# Altium integrated library SigFox.IntLib: 9 symbols
Pins are listed as number, name and electrical type; pins without a type are passive.

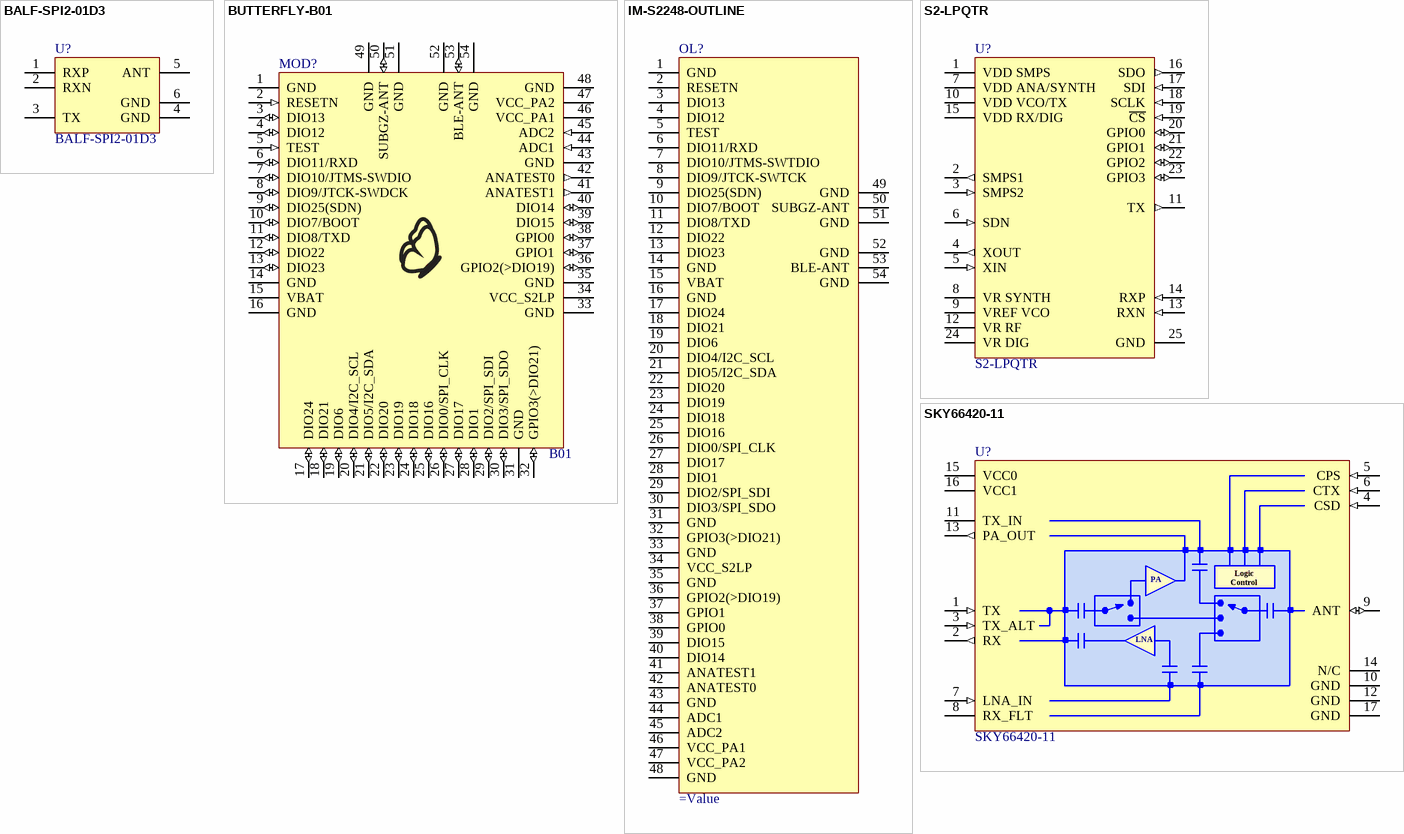
[diagram p0: symbols BALF-SPI2-01D3 to SKY66420-11]

## BALF-SPI2-01D3
designator U?
NOMINAL INPUT CONJUGATE MATCH BA; Manufacturer: STMicroelectronics; Supplier 1: Digi-Key; Manufacturer Part Number: BALF-SPI2-01D3; Stock 1: 2085; Pricing 1: 1 = 0,55000, 10 = 0,47500, 100 = 0,35470, 500 = 0,27872, 1000 = 0,21537 (USD); Value: BALF-SPI2-01D3; Supplier Part Number 1: 497-17626-1-ND
footprint 6UFBGA (Flip-Chip 6 bumps package)
pins: 1 RXP, 2 RXN, 3 TX, 4 GND, 5 ANT, 6 GND

## BUTTERFLY-B01
designator MOD?, comment B01
SigFox MonArch Module with Bluetooth; Manufacturer: COLCIRCUITOS; Value: B01; Supplier Part Number 1: B01; Supplier 1: TECREA; Manufacturer Part Number: B01
footprint BUTTERFLY-B01 (SigFox Monarch Module with Bluetooth)
pins: 1 GND, 2 RESETN (in), 3 DIO13 (io), 4 DIO12 (io), 5 TEST (in), 6 DIO11/RXD (io), 7 DIO10/JTMS-SWDIO (io), 8 DIO9/JTCK-SWDCK (io), 9 DIO25(SDN) (io), 10 DIO7/BOOT (io), 11 DIO8/TXD (io), 12 DIO22 (io), 13 DIO23 (io), 14 GND, 15 VBAT, 16 GND, 17 DIO24 (io), 18 DIO21 (io), 19 DIO6 (io), 20 DIO4/I2C_SCL (io), 21 DIO5/I2C_SDA (io), 22 DIO20 (io), 23 DIO19 (io), 24 DIO18 (io), 25 DIO16 (io), 26 DIO0/SPI_CLK (io), 27 DIO17 (io), 28 DIO1 (io), 29 DIO2/SPI_SDI (io), 30 DIO3/SPI_SDO (io), 31 GND, 32 GPIO3(>DIO21) (io), 33 GND, 34 VCC_S2LP, 35 GND, 36 GPIO2(>DIO19) (io), 37 GPIO1 (io), 38 GPIO0 (io), 39 DIO15 (io), 40 DIO14 (io), 41 ANATEST1 (out), 42 ANATEST0 (out), 43 GND, 44 ADC1 (in), 45 ADC2 (in), 46 VCC_PA1, 47 VCC_PA2, 48 GND, 49 GND, 50 SUBGZ-ANT (io), 51 GND, 52 GND, 53 BLE-ANT (io), 54 GND

## IM-S2248-OUTLINE
designator OL?
Butterfly Module - IM-S2248-OUTLINE
footprint IM-S2248-OUTLINE (Butterfly Module)
pins: 1 GND, 2 RESETN, 3 DIO13, 4 DIO12, 5 TEST, 6 DIO11/RXD, 7 DIO10/JTMS-SWTDIO, 8 DIO9/JTCK-SWTCK, 9 DIO25(SDN), 10 DIO7/BOOT, 11 DIO8/TXD, 12 DIO22, 13 DIO23, 14 GND, 15 VBAT, 16 GND, 17 DIO24, 18 DIO21, 19 DIO6, 20 DIO4/I2C_SCL, 21 DIO5/I2C_SDA, 22 DIO20, 23 DIO19, 24 DIO18, 25 DIO16, 26 DIO0/SPI_CLK, 27 DIO17, 28 DIO1, 29 DIO2/SPI_SDI, 30 DIO3/SPI_SDO, 31 GND, 32 GPIO3(>DIO21), 33 GND, 34 VCC_S2LP, 35 GND, 36 GPIO2(>DIO19), 37 GPIO1, 38 GPIO0, 39 DIO15, 40 DIO14, 41 ANATEST1, 42 ANATEST0, 43 GND, 44 ADC1, 45 ADC2, 46 VCC_PA1, 47 VCC_PA2, 48 GND, 49 GND, 50 SUBGZ-ANT, 51 GND, 52 GND, 53 BLE-ANT, 54 GND

## S2-LPQTR
designator U?
ULTRA-LOW POWER, HIGH PERFORMANC; Manufacturer: STMicroelectronics; Supplier 1: Digi-Key; Manufacturer Part Number: S2-LPQTR; Stock 1: 7425; Pricing 1: 1 = 3,00000, 10 = 2,69700, 100 = 2,20940, 500 = 1,88078, 1000 = 1,58620 (USD); Value: S2-LPQTR; Supplier Part Number 1: 497-17052-1-ND
footprint QFN24 4x4 (QFN24 4x4x1pitch 0.5 mm)
pins: 1 VDD SMPS, 2 SMPS1 (out), 3 SMPS2 (in), 4 XOUT (out), 5 XIN (in), 6 SDN (in), 7 VDD ANA/SYNTH, 8 VR SYNTH, 9 VREF VCO, 10 VDD VCO/TX, 11 TX (out), 12 VR RF, 13 RXN (in), 14 RXP (in), 15 VDD RX/DIG, 16 SDO (out), 17 SDI (in), 18 SCLK (in), 19 ~{CS} (in), 20 GPIO0 (io), 21 GPIO1 (io), 22 GPIO2 (io), 23 GPIO3 (io), 24 VR DIG, 25 GND

## SKY66420-11
designator U?
860 TO 930MHZ RF FEM; Manufacturer: Skyworks Solutions; Supplier 1: Digi-Key; Manufacturer Part Number: SKY66420-11; Stock 1: 7972; Pricing 1: 1 = 2,94000, 10 = 2,62500, 25 = 2,36240, 100 = 2,15250, 250 = 1,94252, 500 = 1,74300, 1000 = 1,47000 (USD); Value: SKY66420-11; Supplier Part Number 1: 863-2028-1-ND
footprint 16-MCM (3x3) (MCM (16-pin, 3.0 x 3.0 x 0.75 mm))
pins: 1 TX (in), 2 RX (out), 3 TX_ALT (in), 4 CSD (in), 5 CPS (in), 6 CTX (in), 7 LNA_IN (in), 8 RX_FLT, 9 ANT (io), 10 GND, 11 TX_IN, 12 GND, 13 PA_OUT (out), 14 N/C, 15 VCC0, 16 VCC1, 17 GND
text: PA; Logic / Control; LNA

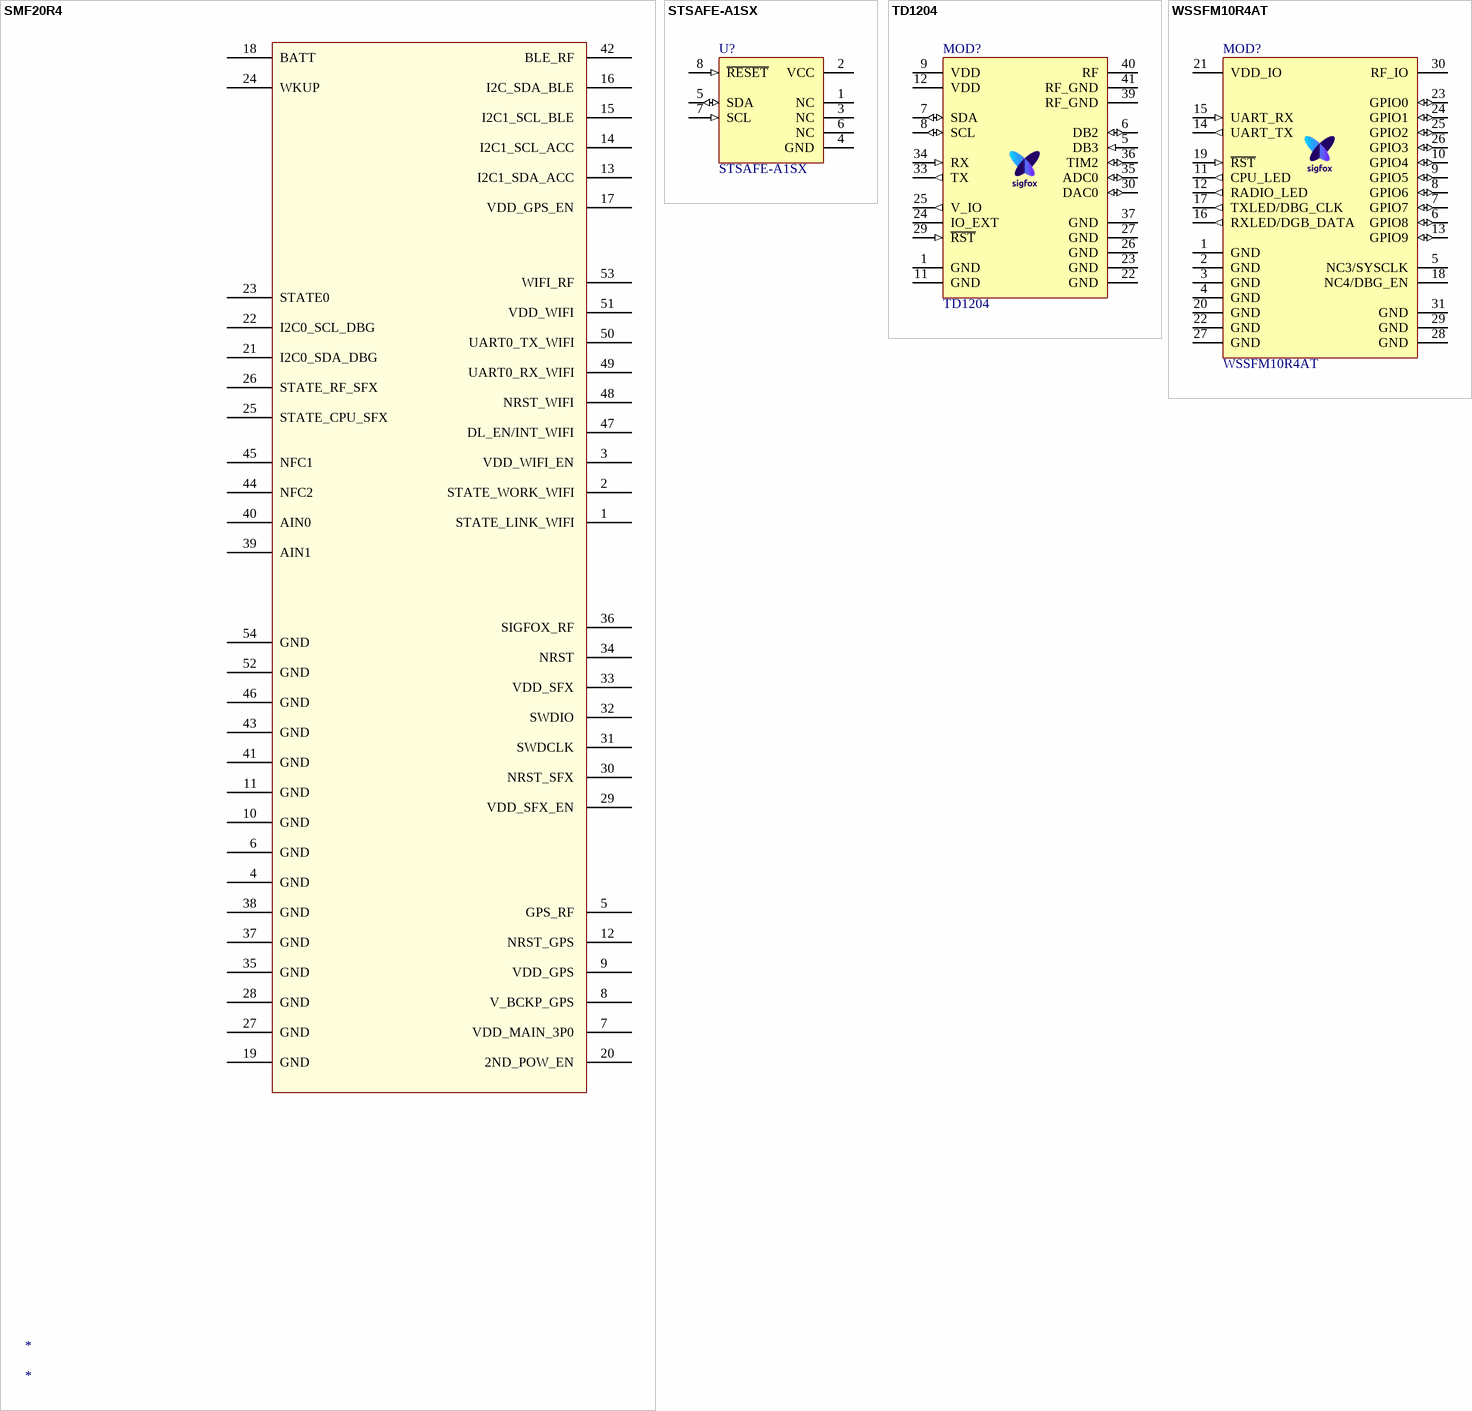
[diagram p1: symbols SMF20R4 to WSSFM10R4AT]

## SMF20R4
designator *
footprint SFM20R4
pins: 1 STATE_LINK_WIFI , 2 STATE_WORK_WIFI , 3 VDD_WIFI_EN , 4 GND , 5 GPS_RF , 6 GND , 7 VDD_MAIN_3P0 , 8 V_BCKP_GPS , 9 VDD_GPS , 10 GND , 11 GND , 12 NRST_GPS , 13 I2C1_SDA_ACC , 14 I2C1_SCL_ACC , 15 I2C1_SCL_BLE , 16 I2C_SDA_BLE , 17 VDD_GPS_EN , 18 BATT , 19 GND , 20 2ND_POW_EN , 21 I2C0_SDA_DBG , 22 I2C0_SCL_DBG , 23 STATE0 , 24 WKUP , 25 STATE_CPU_SFX , 26 STATE_RF_SFX , 27 GND , 28 GND , 29 VDD_SFX_EN , 30 NRST_SFX , 31 SWDCLK , 32 SWDIO , 33 VDD_SFX , 34 NRST , 35 GND , 36 SIGFOX_RF , 37 GND , 38 GND , 39 AIN1 , 40 AIN0 , 41 GND , 42 BLE_RF , 43 GND , 44 NFC2 , 45 NFC1 , 46 GND , 47 DL_EN/INT_WIFI , 48 NRST_WIFI , 49 UART0_RX_WIFI , 50 UART0_TX_WIFI , 51 VDD_WIFI , 52 GND , 53 WIFI_RF , 54 GND 

## STSAFE-A1SX
designator U?
Secure Element for Sigfox LPWAN network; Value: STSAFE-A1SX
footprint UFDFPN8 (UFDFPN8 8-Leads, Body 2,00x3,00mm, Pitch 0,50mm, Thermal Pad 1,60x0,20mm, IPC Medium Density)
pins: 1 NC, 2 VCC, 3 NC, 4 GND, 5 SDA (io), 6 NC, 7 SCL (in), 8 ~{RESET} (in)

## TD1204
designator MOD?
Sigfox Gateway and GPS Receiver; Manufacturer: TELECOM Design; Frequency: 868MHz; Voltage - Supply: 2.3 V ~ 3.6 V; Value: TD1204; Category: RF/IF and RFID; ComponentLink1Description: DataSheet; ComponentLink1URL: https://github.com/Telecom-Design/Documentation_TD_RF_Module/raw/master/TD1204%20Datasheet.pdf; Manufacturer Part Number: TD1204; Mounting Type: Surface Mount; Operating Temperature: -30 to 85 ºC; RoHS: RoHS Compliant; Supplier 1: SigFox; Supplier Part Number 1: TD1204
footprint LGA-41 TD1204
pins: 1 GND (power), 5 DB3 (in), 6 DB2 (io), 7 SDA (io), 8 SCL (io), 9 VDD (power), 11 GND (power), 12 VDD (power), 22 GND (power), 23 GND (power), 24 IO_EXT, 25 V_IO (out), 26 GND (power), 27 GND (power), 29 ~{RST} (in), 30 DAC0 (io), 33 TX (out), 34 RX (in), 35 ADC0 (io), 36 TIM2 (io), 37 GND (power), 39 RF_GND, 40 RF, 41 RF_GND

## WSSFM10R4AT
designator MOD?
Sigfox Module RCZ4 Sub-1GHz; Manufacturer: WISOL; Frequency: 905MHz; Voltage - Supply: 2.1 V ~ 3.6 V; Value: WSSFM10R4AT; Category: RF/IF and RFID; ComponentLink1Description: DataSheet; ComponentLink1URL: https://storage.sbg1.cloud.ovh.net/v1/AUTH_669d7dfced0b44518cb186841d7cbd75/prod_medias/j32oa0ey_s_ds_wssfm10r4at_rev03_170517.pdf; Manufacturer Part Number: WSSFM10R4AT; Mounting Type: Surface Mount; Operating Temperature: -30 to 85 ºC; RoHS: RoHS Compliant; Supplier 1: SigFox; Supplier Part Number 1: WSSFM10R4AT
footprint LCC31-13X20X2.21 (LCC, 31-Leads, Body 13.00x20.20mm, Pitch 1.10mm, IPC Medium Density)
footprint LCC31-E-13X20X2.21 (LCC, 31-Leads, Body 13.00x20.20mm, Pitch 1.10mm, IPC Medium Density)
pins: 1 GND, 2 GND, 3 GND, 4 GND, 5 NC3/SYSCLK, 6 GPIO8 (io), 7 GPIO7 (io), 8 GPIO6 (io), 9 GPIO5 (io), 10 GPIO4 (io), 11 CPU_LED (out), 12 RADIO_LED (out), 13 GPIO9 (io), 14 UART_TX (out), 15 UART_RX (in), 16 RXLED/DGB_DATA (out), 17 TXLED/DBG_CLK (out), 18 NC4/DBG_EN, 19 ~{RST} (in), 20 GND, 21 VDD_IO, 22 GND, 23 GPIO0 (io), 24 GPIO1 (io), 25 GPIO2 (io), 26 GPIO3 (io), 27 GND, 28 GND, 29 GND, 30 RF_IO, 31 GND